# Altium schematic symbol library ISL6236A.SchLib: 1 symbol
Pins are listed as number, name and electrical type; pins without a type are passive.

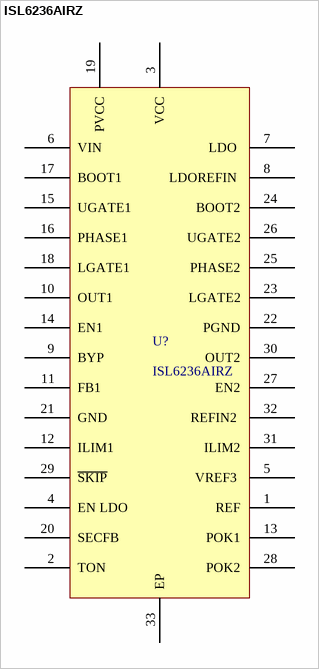
[diagram p0: symbol ISL6236AIRZ]

## ISL6236AIRZ
designator U?
Switching Controllers ISL6236 QD QUTPUT CNTRLR IMVP-6 32LD; Manufacturer: Intersil; Number of Outputs: 2; Output Current: 20000 mA; Switching Frequency: 200 KHz, 300 KHz, 400 KHz, 500 KHz; Supplier 1: Mouser; Manufacturer Part Number: ISL6236AIRZ; RoHS: RoHS Compliant; Category: Switching Controllers; Stock 1: 36; Pricing 1: 1=8.69, 25=7.06, 100=5.99, 500=4.01 (AUD); Package / Case: QFN EP; Packaging: Tube; Series: ISL6236; Brand: Intersil; Maximum Operating Temperature: + 100 C; Minimum Operating Temperature: - 40 C; Standard Pack Qty: 60; RoHS - Mouser: Y; Minimum Order Quantity: 1; Reeling: False; ComponentLink1URL: http://www.mouser.com/ds/2/465/fn6453-80078.pdf; ComponentLink1Description: http://www.mouser.com/ds/2/465/fn6453-80078.pdf; Supplier Part Number 1: 968-ISL6236AIRZ
pins: 1 REF "2V Reference Output. Bypass to GND with a 0.1µF (min) capacitor. REF can source up to 50µA for external loads.   Loading REF degrades FB and output accuracy according to the REF load-regulation error.", 2 TON  "Frequency Select Input. Connect to GND for 400kHz/500kHz operation. Connect to REF (or leave OPEN) for   400kHz/300kHz operation. Connect to VCC for 200kHz/300kHz operation (5V/3.3V SMPS switching frequencies,  respectively).", 3 VCC "Analog Supply Voltage Input for PWM Core. Bypass to GND with a 1µF ceramic capacitor.", 4 EN LDO "LDO Enable Input. The LDO is enabled if EN LDO is within logic high level and disabled if EN LDO is less than the logic   low level.", 5 VREF3  "3.3V Reference Output. VREF3 can source up to 5mA for external loads. Bypass to GND with a 0.01µF capacitor if   loaded. Leave open if there is no load.", 6 VIN "Power-Supply Input. VIN is used for the constant-on-time PWM on-time one-shot circuits. VIN is also used to power the   linear regulators. The linear regulators are powered by SMPS1 if OUT1 is set greater than 4.78V and BYP is tied to  OUT1. Connect VIN to the battery input and bypass with a 1µF capacitor.", 7 LDO  "Linear-Regulator Output. LDO can provide a total of 100mA external loads. The LDO regulates at 5V If LDOREFIN is   connected to GND. When the LDO is set at 5V and BYP is within 5V switchover threshold, the internal regulator shuts  down and the LDO output pin connects to BYP through a 0.7Ω switch. The LDO regulates at 3.3V if LDOREFIN is  connected to VCC. When the LDO is set at 3.3V and BYP is within the 3.3V switchover threshold, the internal regulator  shuts down and the LDO output pin connects to BYP through a 1.5Ω switch. Bypass LDO output with a minimum of  4.7µF ceramic.", 8 LDOREFIN  "LDO Reference Input. Connect LDOREFIN to GND for fixed 5V operation. Connect LDOREFIN to VCC for fixed 3.3V   operation. LDOREFIN can be used to program LDO output voltage from 0.7V to 4.5V. LDO output is two times the  voltage of LDOREFIN. There is no switchover in adjustable mode.", 9 BYP  "BYP is the switchover source voltage for the LDO when LDOREFIN is connected to GND or VCC. Connect BYP to 5V   if LDOREFIN is tied to GND. Connect BYP to 3.3V if LDOREFIN is tied to VCC.", 10 OUT1  "SMPS1 Output Voltage-Sense Input. Connect to the SMPS1 output. OUT1 is an input to the Constant on-time-PWM   on-time one-shot circuit. It also serves as the SMPS1 feedback input in fixed-voltage mode.", 11 FB1 "SMPS1 Feedback Input. Connect FB1 to GND for fixed 5V operation. Connect FB1 to VCC for fixed 1.5V operation.   Connect FB1 to a resistive voltage-divider from OUT1 to GND to adjust the output from 0.7V to 5.5V.", 12 ILIM1  "SMPS1 Current-Limit Adjustment. The GND-PHASE1 current-limit threshold is 1/10th the voltage seen at ILIM1 over a   0.2V to 2V range. There is an internal 5µA current source from VCC to ILIM1. Connect ILIM1 to REF for a fixed 200mV  threshold. The logic current limit threshold is default to 100mV value if ILIM1 is higher than VCC - 1V.", 13 POK1 "SMPS1 Power-Good Open-Drain Output. POK1 is low when the SMPS1 output voltage is more than 10% below the   normal regulation point or during soft-start. POK1 is high impedance when the output is in regulation and the soft-start  circuit has terminated. POK1 is low in shutdown.", 14 EN1 "SMPS1 Enable Input. The SMPS1 is enabled if EN1 is greater than the logic high level and disabled if EN1 is less than   the logic low level. If EN1 is connected to REF, the SMPS1 starts after the SMPS2 reaches regulation (delay start). Drive   EN1 below 0.8V to clear fault level and reset the fault latches.", 15 UGATE1 "High-Side MOSFET Floating Gate-Driver Output for SMPS1. UGATE1 swings between PHASE1 and BOOT1.", 16 PHASE1 "Inductor Connection for SMPS1. PHASE1 is the internal lower supply rail for the UGATE1 high-side gate driver.   PHASE1 is the current-sense input for the SMPS1.", 17 BOOT1 "Boost Flying Capacitor Connection for SMPS1. Connect to an external capacitor according to the “Typical Application   Circuits” on page 19 (Figures 66, 67 and 68). See “MOSFET Gate Drivers (UGATE, LGATE)” on page 29.", 18 LGATE1 "SMPS1 Synchronous-Rectifier Gate-Drive Output. LGATE1 swings between GND and PVCC.", 19 PVCC "PVCC is the supply voltage for the low-side MOSFET driver LGATE. Connect a 5V power source to the PVCC pin and   bypass to PGND with a 1µF MLCC ceramic capacitor. Refer to Figure 70 - A switch connects PVCC to VCC with 10Ω  when in normal operation and is disconnected when in shutdown mode. An external 10Ω resistor from PVCC to VCC   is prohibited as it will create a leakage path from VIN to GND in shutdown mode.", 20 SECFB "The SECFB is used to monitor the optional external 14V charge pump. Connect a resistive voltage-divider from 14V   charge pump output to GND to detect the output. If SECFB drops below the threshold voltage, LGATE1 turns on for  300ns. This will refresh the external charge pump driven by LGATE1 without over-discharging the output voltage.", 21 GND "Analog Ground for both SMPS and LDO. Connect externally to the underside of the exposed pad.", 22 PGND "Power Ground for SMPS controller. Connect PGND externally to the underside of the exposed pad.", 23 LGATE2 "SMPS2 Synchronous-Rectifier Gate-Drive Output. LGATE2 swings between GND and PVCC.", 24 BOOT2 "Boost Flying Capacitor Connection for SMPS2. Connect to an external capacitor according to the “Typical Application   Circuits” on page 19 (Figures 66, 67 and 68). See “MOSFET Gate Drivers (UGATE, LGATE)” on page 29.", 25 PHASE2 "Inductor Connection for SMPS2. PHASE2 is the internal lower supply rail for the UGATE2 high-side gate driver.   PHASE2 is the current-sense input for the SMPS2.", 26 UGATE2 "High-Side MOSFET Floating Gate-Driver Output for SMPS2. UGATE1 swings between PHASE2 and BOOT2.", 27 EN2 "SMPS2 Enable Input. The SMPS2 is enabled if EN2 is greater than the logic high level and disabled if EN2 is less than   the logic low level. If EN2 is connected to REF, the SMPS2 starts after the SMPS1 reaches regulation (delay start). Drive  EN2 below 0.8V to clear fault level and reset the fault latches.", 28 POK2 "SMP2 Power-Good Open-Drain Output. POK2 is low when the SMPS2 output voltage is more than 10% below the   normal regulation point or during soft-start. POK2 is high impedance when the output is in regulation and the soft-start  circuit has terminated. POK2 is low in shutdown.", 29 ~{SKIP} "Low-Noise Mode Control. Connect \S\K\I\P to GND for normal Idle-Mode (pulse-skipping) operation or to VCC for PWM   mode (fixed frequency). Connect to REF or leave floating for ultrasonic skip mode operation.", 30 OUT2 "SMPS2 Output Voltage-Sense Input. Connect to the SMPS2 output. OUT2 is an input to the Constant on-time-PWM   on-time one-shot circuit. It also serves as the SMPS2 feedback input in fixed-voltage mode.", 31 ILIM2 "SMPS2 Current-Limit Adjustment. The GND-PHASE1 current-limit threshold is 1/10th the voltage seen at ILIM2 over a   0.2V to 2V range. There is an internal 5µA current source from VCC to ILIM2. Connect ILIM2 to REF for a fixed 200mV.  The logic current limit threshold is default to 100mV value if ILIM2 is higher than VCC - 1V.", 32 REFIN2  "Output voltage control for SMPS2. Connect REFIN2 to VCC for fixed 3.3V. Connect REFIN2 to VREF3 for fixed 1.05V.   REFIN2 can be used to program SMPS2 output voltage from 0.5V to 2.50V. SMPS2 output voltage is 0V if  REFIN2 < 0.5V.", 33 EP "Exposed Pad"